# EAGLE library part 74AHC573 (library ic)
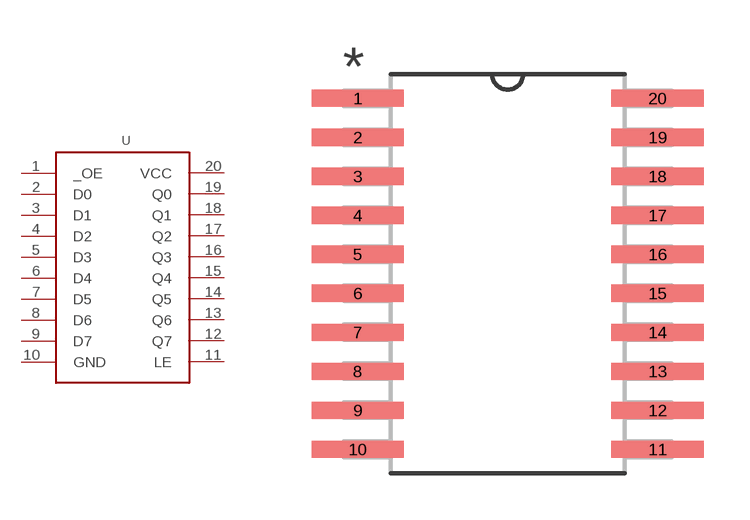
[diagram p3: symbol with the pads of SOIC20; footprint SOIC20]

Designator prefix U

## 74AHC573  [SOIC20]
1  _OE
2  D0
3  D1
4  D2
5  D3
6  D4
7  D5
8  D6
9  D7
10  GND
11  LE
12  Q7
13  Q6
14  Q5
15  Q4
16  Q3
17  Q2
18  Q1
19  Q0
20  VCC

## Footprint SOIC20 (pad centres in mm)
smd 3 x 0.559: 1 -4.878,5.715; 2 -4.878,4.445; 3 -4.878,3.175; 4 -4.878,1.905; 5 -4.878,0.635; 6 -4.878,-0.635; 7 -4.878,-1.905; 8 -4.878,-3.175; 9 -4.878,-4.445; 10 -4.878,-5.715; 11 4.878,-5.715; 12 4.878,-4.445; 13 4.878,-3.175; 14 4.878,-1.905; 15 4.878,-0.635; 16 4.878,0.635; 17 4.878,1.905; 18 4.878,3.175; 19 4.878,4.445; 20 4.878,5.715